# Altium schematic symbol library Comp_Schm.SchLib: 24 symbols
Pins are listed as number, name and electrical type; pins without a type are passive.

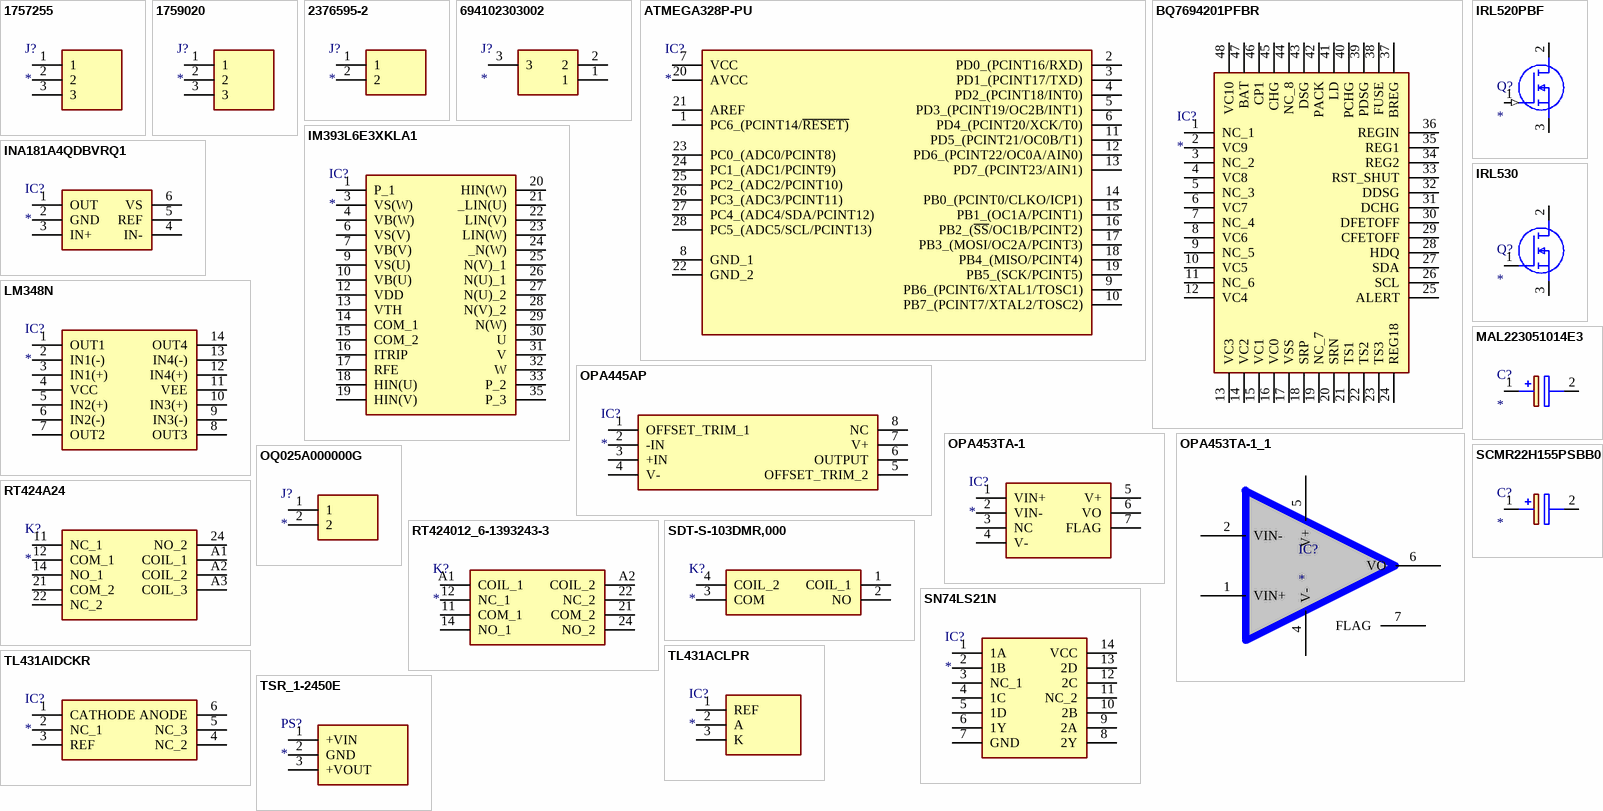
[diagram p0: symbols 1757255 to TSR_1-2450E]

## 1757255
designator J?
Connector; Manufacturer_Name: Phoenix Contact; Manufacturer_Part_Number: 1757255; Datasheet Link: http://www.phoenixcontact.com/de/produkte/1757255/pdf; Height: 8.72mm; Mouser Part Number: 651-1757255; Mouser Price/Stock: https://www.mouser.co.uk/ProductDetail/Phoenix-Contact/1757255?qs=uD%2FdkN7XIa0ez8xszzicKg%3D%3D; Arrow Part Number: 1757255; Arrow Price/Stock: https://www.arrow.com/en/products/1757255/phoenix-contact?region=nac
footprint 1757255
pins: 1, 2, 3

## 1759020
designator J?
Connector; Manufacturer_Name: Phoenix Contact; Manufacturer_Part_Number: 1759020; Datasheet Link: http://www.phoenixcontact.com/de/produkte/1759020/pdf; Height: 8.72mm; Mouser Part Number: 651-1759020; Mouser Price/Stock: https://www.mouser.co.uk/ProductDetail/Phoenix-Contact/1759020?qs=cyzODkzcbwBhDS9bIpwSxQ%3D%3D; Arrow Part Number: 1759020; Arrow Price/Stock: https://www.arrow.com/en/products/1759020/phoenix-contact
footprint SHDRRA3W103P0X508_1X3_1524X1200X872P
pins: 1, 2, 3

## 2376595-2
designator J?
Connector; Manufacturer_Name: TE Connectivity; Manufacturer_Part_Number: 2376595-2; Datasheet Link: https://www.te.com/commerce/DocumentDelivery/DDEController?Action=srchrtrv&DocNm=2376595&DocType=Customer+Drawing&DocLang=English; Height: 10.65mm
footprint 23765952
pins: 1, 2

## 694102303002
designator J?
Connector; Manufacturer_Name: Wurth Elektronik; Manufacturer_Part_Number: 694102303002; Datasheet Link: https://katalog.we-online.de/em/datasheet/6941xx303002.pdf; Height: 7.6mm; Mouser Part Number: 710-694102303002; Mouser Price/Stock: https://www.mouser.co.uk/ProductDetail/Wurth-Elektronik/694102303002?qs=a9WhcLg8qCxbLC%252B3GMhS0A%3D%3D
footprint 694102303002
pins: 1, 2, 3

## ATMEGA328P-PU
designator IC?
Integrated Circuit; Manufacturer_Name: Microchip; Manufacturer_Part_Number: ATMEGA328P-PU; Datasheet Link: https://datasheet.datasheetarchive.com/originals/distributors/Datasheets_SAMA/59a954cf62ab8fb92f29cdfb51cb433a.pdf; Height: 4.572mm; Mouser Part Number: 556-ATMEGA328P-PU; Mouser Price/Stock: https://www.mouser.co.uk/ProductDetail/Microchip-Technology-Atmel/ATMEGA328P-PU?qs=K8BHR703ZXguOQv3sKbWcg%3D%3D; Arrow Part Number: ATMEGA328P-PU; Arrow Price/Stock: https://www.arrow.com/en/products/atmega328p-pu/microchip-technology?region=nac
footprint DIP794W53P254L3467H457Q28N
pins: 1 PC6_(PCINT14/~{RESET)}, 2 PD0_(PCINT16/RXD), 3 PD1_(PCINT17/TXD), 4 PD2_(PCINT18/INT0), 5 PD3_(PCINT19/OC2B/INT1), 6 PD4_(PCINT20/XCK/T0), 7 VCC, 8 GND_1, 9 PB6_(PCINT6/XTAL1/TOSC1), 10 PB7_(PCINT7/XTAL2/TOSC2), 11 PD5_(PCINT21/OC0B/T1), 12 PD6_(PCINT22/OC0A/AIN0), 13 PD7_(PCINT23/AIN1), 14 PB0_(PCINT0/CLKO/ICP1), 15 PB1_(OC1A/PCINT1), 16 PB2_(~{SS}/OC1B/PCINT2), 17 PB3_(MOSI/OC2A/PCINT3), 18 PB4_(MISO/PCINT4), 19 PB5_(SCK/PCINT5), 20 AVCC, 21 AREF, 22 GND_2, 23 PC0_(ADC0/PCINT8), 24 PC1_(ADC1/PCINT9), 25 PC2_(ADC2/PCINT10), 26 PC3_(ADC3/PCINT11), 27 PC4_(ADC4/SDA/PCINT12), 28 PC5_(ADC5/SCL/PCINT13)

## BQ7694201PFBR
designator IC?
Integrated Circuit; Manufacturer_Name: Texas Instruments; Manufacturer_Part_Number: BQ7694201PFBR; Datasheet Link: https://www.ti.com/lit/gpn/bq76942; Height: 1.2mm; Mouser Part Number: 595-BQ7694201PFBR; Mouser Price/Stock: https://www.mouser.co.uk/ProductDetail/Texas-Instruments/BQ7694201PFBR?qs=iLbezkQI%252BsjbsTRVrFvjUA%3D%3D
footprint QFP50P900X900X120-48N
pins: 1 NC_1, 2 VC9, 3 NC_2, 4 VC8, 5 NC_3, 6 VC7, 7 NC_4, 8 VC6, 9 NC_5, 10 VC5, 11 NC_6, 12 VC4, 13 VC3, 14 VC2, 15 VC1, 16 VC0, 17 VSS, 18 SRP, 19 NC_7, 20 SRN, 21 TS1, 22 TS2, 23 TS3, 24 REG18, 25 ALERT, 26 SCL, 27 SDA, 28 HDQ, 29 CFETOFF, 30 DFETOFF, 31 DCHG, 32 DDSG, 33 RST_SHUT, 34 REG2, 35 REG1, 36 REGIN, 37 BREG, 38 FUSE, 39 PDSG, 40 PCHG, 41 LD, 42 PACK, 43 DSG, 44 NC_8, 45 CHG, 46 CP1, 47 BAT, 48 VC10

## IM393L6E3XKLA1
designator IC?
Integrated Circuit; Manufacturer_Name: Infineon; Manufacturer_Part_Number: IM393L6E3XKLA1; Datasheet Link: https://www.arrow.com/en/products/im393l6e3xkla1/infineon-technologies-ag; Height: 4.6mm; Mouser Part Number: 726-IM393L6E3XKLA1; Mouser Price/Stock: https://www.mouser.co.uk/ProductDetail/Infineon-Technologies/IM393L6E3XKLA1?qs=vLWxofP3U2ysN4YZUKnwVw%3D%3D; Arrow Part Number: IM393L6E3XKLA1; Arrow Price/Stock: https://www.arrow.com/en/products/im393l6e3xkla1/infineon-technologies-ag
footprint IM393L6E3XKLA1
pins: 1 P_1, 3 VS(W), 4 VB(W), 6 VS(V), 7 VB(V), 9 VS(U), 10 VB(U), 12 VDD, 13 VTH, 14 COM_1, 15 COM_2, 16 ITRIP, 17 RFE, 18 HIN(U), 19 HIN(V), 20 HIN(W), 21 _LIN(U), 22 LIN(V), 23 LIN(W), 24 _N(W), 25 N(V)_1, 26 N(U)_1, 27 N(U)_2, 28 N(V)_2, 29 N(W), 30 U, 31 V, 32 W, 33 P_2, 35 P_3

## INA181A4QDBVRQ1
designator IC?
Integrated Circuit; Manufacturer_Name: Texas Instruments; Manufacturer_Part_Number: INA181A4QDBVRQ1; Datasheet Link: http://www.ti.com/lit/gpn/INA181-Q1; Height: 1.45mm; Mouser Part Number: 595-INA181A4QDBVRQ1; Mouser Price/Stock: https://www.mouser.co.uk/ProductDetail/Texas-Instruments/INA181A4QDBVRQ1?qs=9r4v7xj2Lnnq9cNkmpf%2FZg%3D%3D; Arrow Part Number: INA181A4QDBVRQ1; Arrow Price/Stock: https://www.arrow.com/en/products/ina181a4qdbvrq1/texas-instruments?region=nac
footprint SOT95P280X145-6N
pins: 1 OUT, 2 GND, 3 IN+, 4 IN-, 5 REF, 6 VS

## IRL520PBF
designator Q?
MOSFET (N-Channel); Manufacturer_Name: Vishay; Manufacturer_Part_Number: IRL520PBF; Datasheet Link: https://componentsearchengine.com/Datasheets/2/IRL520PBF.pdf; Height: 4.65mm; Mouser Part Number: 844-IRL520PBF; Mouser Price/Stock: https://www.mouser.co.uk/ProductDetail/Vishay-Semiconductors/IRL520PBF?qs=cvaI6ThkwxvolOoIPuBsHA%3D%3D; Arrow Part Number: IRL520PBF; Arrow Price/Stock: https://www.arrow.com/en/products/irl520pbf/vishay
footprint TO254P465X1024X2050-3P
pins: 1 G (in), 2 D (power), 3 S (power)

## IRL530
designator Q?
MOSFET (N-Channel); Manufacturer_Name: Vishay; Manufacturer_Part_Number: IRL530; Datasheet Link: https://mouser.componentsearchengine.com/Datasheets/1/IRL530.pdf; Height: 4.65mm; Mouser Part Number: 844-IRL530; Mouser Price/Stock: https://www.mouser.co.uk/ProductDetail/Vishay-Siliconix/IRL530?qs=ehM%252BESVsXgxZiUd3tW%2FRCg%3D%3D
footprint TO254P465X1024X2050-3P
pins: 1 G, 2 D, 3 S

## LM348N
designator IC?
Integrated Circuit; Manufacturer_Name: ON Semiconductor; Manufacturer_Part_Number: LM348N; Datasheet Link: https://www.mouser.com/datasheet/2/308/Fairchild_datasheet-18-1191730.pdf; Height: 5.08mm; Mouser Part Number: 512-LM348N; Mouser Price/Stock: https://www.mouser.co.uk/ProductDetail/ON-Semiconductor-Fairchild/LM348N?qs=HevK2UT75zuE31L6dAgXZg%3D%3D
footprint DIP762W56P254L1980H508Q14N
pins: 1 OUT1, 2 IN1(-), 3 IN1(+), 4 VCC, 5 IN2(+), 6 IN2(-), 7 OUT2, 8 OUT3, 9 IN3(-), 10 IN3(+), 11 VEE, 12 IN4(+), 13 IN4(-), 14 OUT4

## MAL223051014E3
designator C?
Capacitor Polarised; Manufacturer_Name: Vishay; Manufacturer_Part_Number: MAL223051014E3; Datasheet Link: https://www.mouser.de/datasheet/2/427/VISH_S_A0011831053_1-2572302.pdf; Height: 22mm; Mouser Part Number: 594-MAL223051014E3; Mouser Price/Stock: https://www.mouser.co.uk/ProductDetail/Vishay-BC-Components/MAL223051014E3?qs=vmHwEFxEFR9SM09FUoNIXg%3D%3D
footprint CAPPRD500W60D1300H2200
pins: 1 +, 2 -

## OPA445AP
designator IC?
Integrated Circuit; Manufacturer_Name: Texas Instruments; Manufacturer_Part_Number: OPA445AP; Datasheet Link: https://www.ti.com/lit/ds/symlink/opa445.pdf?ts=1611823262864&ref_url=https%253A%252F%252Fwww.ti.com%252Fstore%252Fti%252Fen%252Fp%252Fproduct%252F%253Fp%253DOPA445AP; Height: 5.08mm; Mouser Part Number: 595-OPA445AP; Mouser Price/Stock: https://www.mouser.co.uk/ProductDetail/Texas-Instruments/OPA445AP?qs=wgAEGBTxy7kSuMJFgUrlmA%3D%3D; Arrow Part Number: OPA445AP; Arrow Price/Stock: https://www.arrow.com/en/products/opa445ap/texas-instruments?region=nac
footprint DIP794W53P254L959H508Q8N
pins: 1 OFFSET_TRIM_1, 2 -IN, 3 +IN, 4 V-, 5 OFFSET_TRIM_2, 6 OUTPUT, 7 V+, 8 NC

## OPA453TA-1
designator IC?
Integrated Circuit; Manufacturer_Name: Texas Instruments; Manufacturer_Part_Number: OPA453TA-1; Datasheet Link: https://www.ti.com/lit/ds/symlink/opa453.pdf?HQS=dis-mous-null-mousermode-dsf-pf-null-wwe&ts=1637397058666&ref_url=https%253A%252F%252Fwww.mouser.in%252F; Height: 4.7mm
footprint TO127P470X1016X2195-7P
pins: 1 VIN+, 2 VIN-, 3 NC, 4 V-, 5 V+, 6 VO, 7 FLAG

## OPA453TA-1_1
designator IC?
Integrated Circuit; Manufacturer_Name: Texas Instruments; Manufacturer_Part_Number: OPA453TA-1; Datasheet Link: https://www.ti.com/lit/ds/symlink/opa453.pdf?HQS=dis-mous-null-mousermode-dsf-pf-null-wwe&ts=1637397058666&ref_url=https%253A%252F%252Fwww.mouser.in%252F; Height: 4.7mm
footprint TO127P470X1016X2195-7P
pins: 1 VIN+, 2 VIN-, 4 V-, 5 V+, 6 VO, 7 FLAG

## OQ025A000000G
designator J?
Connector; Manufacturer_Name: Amphenol; Manufacturer_Part_Number: OQ025A000000G; Datasheet Link: https://media.digikey.com/pdf/Data%20Sheets/Amphenol%20PDFs/OQxx5A00xxxxG.pdf; Height: 12.5mm; Mouser Part Number: 523-OQ025A000000G; Mouser Price/Stock: https://www.mouser.co.uk/ProductDetail/Amphenol-Anytek/OQ025A000000G?qs=T3oQrply3y%2FPbDIhJzFZ1w%3D%3D
footprint SHDR2W100P0X508_1X2_1016X860X1250P
pins: 1, 2

## RT424A24
designator K?
Relay or Contactor; Manufacturer_Name: TE Connectivity; Manufacturer_Part_Number: RT424A24; Datasheet Link: https://www.te.com/commerce/DocumentDelivery/DDEController?Action=showdoc&DocId=Data+Sheet%7F1-1773969-4%7F1904%7Fpdf%7FEnglish%7FENG_DS_1-1773969-4_1904.pdf%7F4-1393243-7; Height: 15.7mm; Mouser Part Number: 655-RT424A24; Mouser Price/Stock: https://www.mouser.co.uk/ProductDetail/TE-Connectivity-PB/RT424A24?qs=8wHch9UpSvZgqR2p%252BwbZCA%3D%3D; Arrow Part Number: RT424A24; Arrow Price/Stock: https://www.arrow.com/en/products/rt424a24/te-connectivity?region=nac
footprint RT424A24
pins: 11 NC_1, 12 COM_1, 14 NO_1, 21 COM_2, 22 NC_2, 24 NO_2, A1 COIL_1, A2 COIL_2, A3 COIL_3

## RT424012_6-1393243-3
designator K?
Relay or Contactor; Manufacturer_Name: TE Connectivity; Manufacturer_Part_Number: RT424012 6-1393243-3; Datasheet Link: https://www.te.com/commerce/DocumentDelivery/DDEController?Action=showdoc&DocId=Data+Sheet%7FRT2%7F1014%7Fpdf%7FEnglish%7FENG_DS_RT2_1014.pdf%7F6-1393243-3; Height: 15.7mm
footprint RT424012613932433
pins: 11 COM_1, 12 NC_1, 14 NO_1, 21 COM_2, 22 NC_2, 24 NO_2, A1 COIL_1, A2 COIL_2

## SCMR22H155PSBB0
designator C?
Capacitor Polarised; Manufacturer_Name: AVX; Manufacturer_Part_Number: SCMR22H155PSBB0; Datasheet Link: https://datasheets.avx.com/AVX-SCM.pdf; Height: 26mm; Mouser Part Number: 581-SCMR22H155PSBB0; Mouser Price/Stock: https://www.mouser.com/Search/Refine.aspx?Keyword=581-SCMR22H155PSBB0; Arrow Part Number: SCMR22H155PSBB0; Arrow Price/Stock: https://www.arrow.com/en/products/scmr22h155psbb0/avx
footprint SCMR22H155PSBB0
pins: 1 +, 2 -

## SDT-S-103DMR,000
designator K?
Relay or Contactor; Manufacturer_Name: TE Connectivity; Manufacturer_Part_Number: SDT-S-103DMR,000; Description: General Purpose Relays; Datasheet Link: https://www.te.com/commerce/DocumentDelivery/DDEController?Action=srchrtrv&DocNm=1461267&DocType=Customer+Drawing&DocLang=English; Height: 25.5mm; Mouser Part Number: 655-SDT-S-103DMR000; Mouser Price/Stock: https://www.mouser.co.uk/ProductDetail/TE-Connectivity-OEG/SDT-S-103DMR000?qs=rXmh1mW8ce0FWJN2AHcBiw%3D%3D
footprint SDTS103DMR000
pins: 1 COIL_1, 2 NO, 3 COM, 4 COIL_2

## SN74LS21N
designator IC?
Integrated Circuit; Manufacturer_Name: Texas Instruments; Manufacturer_Part_Number: SN74LS21N; Datasheet Link: http://www.ti.com/general/docs/suppproductinfo.tsp?distId=26&gotoUrl=http%3A%2F%2Fwww.ti.com%2Flit%2Fgpn%2Fsn74ls21; Height: 5.08mm; Mouser Part Number: 595-SN74LS21N; Mouser Price/Stock: https://www.mouser.co.uk/ProductDetail/Texas-Instruments/SN74LS21N?qs=j%2FZo4ajzVJJK9iXshq%2FQcg%3D%3D; Arrow Part Number: SN74LS21N; Arrow Price/Stock: https://www.arrow.com/en/products/sn74ls21n/texas-instruments
footprint DIP794W53P254L1930H508Q14N
pins: 1 1A, 2 1B, 3 NC_1, 4 1C, 5 1D, 6 1Y, 7 GND, 8 2Y, 9 2A, 10 2B, 11 NC_2, 12 2C, 13 2D, 14 VCC

## TL431ACLPR
designator IC?
Integrated Circuit; Manufacturer_Name: Texas Instruments; Manufacturer_Part_Number: TL431ACLPR; Datasheet Link: http://www.ti.com/lit/gpn/tl431; Height: 5.34mm; Mouser Part Number: 595-TL431ACLPR; Mouser Price/Stock: https://www.mouser.co.uk/ProductDetail/Texas-Instruments/TL431ACLPR?qs=0le1rQK8zxqBxlVXkAYIwg%3D%3D; Arrow Part Number: TL431ACLPR; Arrow Price/Stock: https://www.arrow.com/en/products/tl431aclpr/texas-instruments?region=nac
footprint TL431ACLPR
pins: 1 REF, 2 A, 3 K

## TL431AIDCKR
designator IC?
Integrated Circuit; Manufacturer_Name: Texas Instruments; Manufacturer_Part_Number: TL431AIDCKR; Datasheet Link: https://datasheet.datasheetarchive.com/originals/distributors/SFDatasheet-6/sf-000131849.pdf; Height: 1.1mm; Mouser Part Number: 595-TL431AIDCKR; Mouser Price/Stock: https://www.mouser.com/Search/Refine.aspx?Keyword=595-TL431AIDCKR; Arrow Part Number: TL431AIDCKR; Arrow Price/Stock: https://www.arrow.com/en/products/tl431aidckr/texas-instruments
footprint SOP65P210X110-6N
pins: 1 CATHODE, 2 NC_1, 3 REF, 4 NC_2, 5 NC_3, 6 ANODE

## TSR_1-2450E
designator PS?
Power Supply; Manufacturer_Name: Traco Power; Manufacturer_Part_Number: TSR 1-2450E; Datasheet Link: https://tracopower.com/tsr1e-datasheet/; Height: 10.6mm; Mouser Part Number: 495-TSR1-2450E; Mouser Price/Stock: https://www.mouser.co.uk/ProductDetail/TRACO-Power/TSR-1-2450E?qs=vmHwEFxEFR%2FlQnbAtEoeVA%3D%3D
footprint TSR12450E
pins: 1 +VIN, 2 GND, 3 +VOUT